# Altium footprint library Texas_Instruments.PcbLib: 113 footprints (part 6 of 8)
Each footprint in its own frame and in the unit in brackets; x right, y up, seen from the top. Pads: shape width x height; smd on the part's side, far side on the other; paste and mask are expansions set on the pad; w line width, h text height; cw(c..) or ccw(c..) is an arc to the next point about the centre after c.
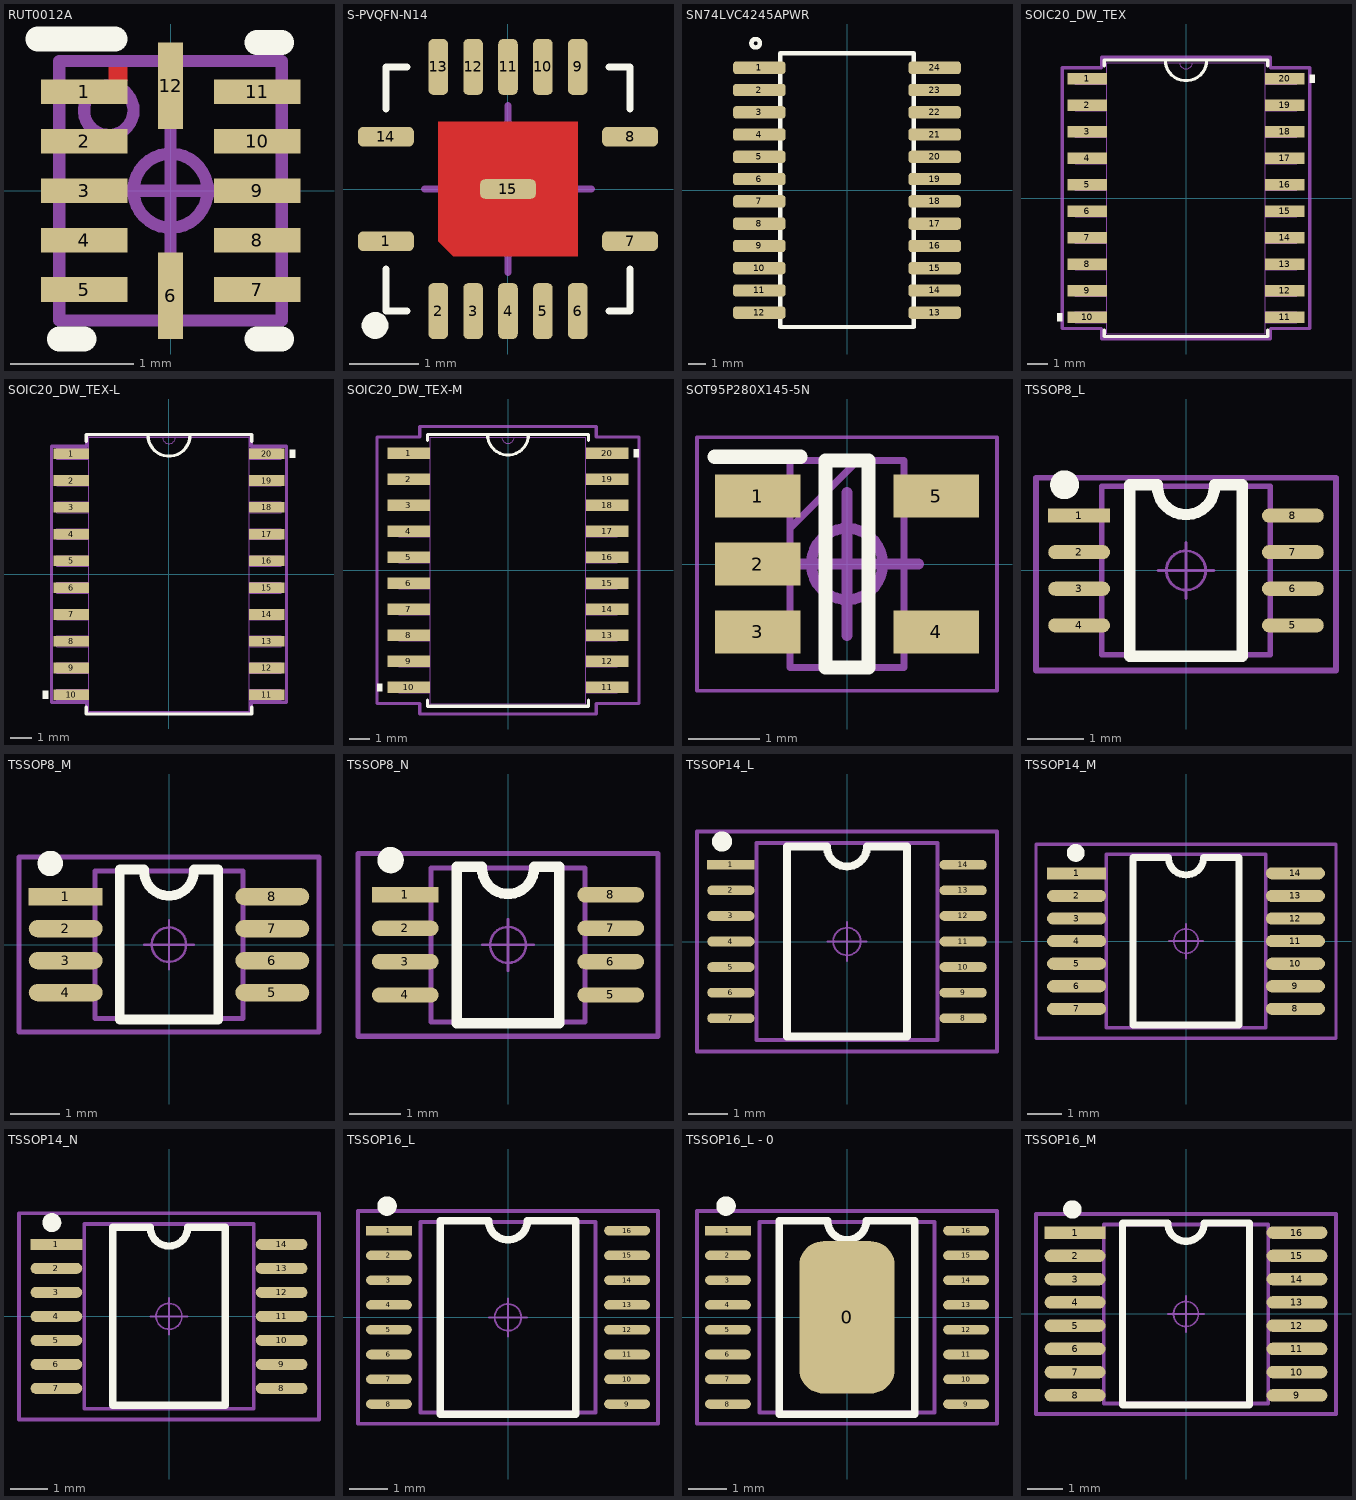
[diagram p5: the footprints below, top view; thin cyan lines are the x and y axes]

## RUT0012A [mm]
pads (12):
  rect 0.7x0.2 smd paste-0.337: 1(-0.7,0.8) 2(-0.7,0.4) 3(-0.7,0) 4(-0.7,-0.4) 5(-0.7,-0.8) 7(0.7,-0.8) 8(0.7,-0.4) 9(0.7,0) 10(0.7,0.4) 11(0.7,0.8)
  rect 0.2x0.7 smd paste-0.337: 6(0,-0.85) 12(0,0.85)
Top Layer:
  region: -0.5,1 -0.5,0.889 -0.35,0.889 -0.35,1
Top Overlay:
  lines w0.2: -1.075,1.228 -0.45,1.228 ; -0.9,-1.2 -0.7,-1.2 ; 0.7,-1.2 0.9,-1.2 ; 0.7,1.2 0.9,1.2
Top Solder:
  region: -0.551,1.051 -0.551,0.849 -0.299,0.849 -0.299,1.051
Mechanical 13:
  circle w0.1: c-0.5,0.65 r0.2
  lines w0.1: -0.9,-1.05 0.9,-1.05 0.9,1.05 -0.9,1.05 -0.9,-1.05
Mechanical 15:
  circle w0.1: c0,0 r0.3
  lines w0.1: -0.6,0 0.6,0 ; 0,-0.6 0,0.6
3D body "RUT0012A.stp": height 0.55, standoff 0, extent -0.85,-1 0.85,1

## S-PVQFN-N14 [mm]
pads (15):
  rrect50% 0.8x0.28 smd: 1(-1.75,-0.75) 7(1.75,-0.75) 8(1.75,0.75) 14(-1.75,0.75) 15(0,0)
  rrect50% 0.28x0.8 smd: 2(-1,-1.75) 3(-0.5,-1.75) 4(0,-1.75) 5(0.5,-1.75) 6(1,-1.75) 9(1,1.75) 10(0.5,1.75) 11(0,1.75) 12(-0.5,1.75) 13(-1,1.75)
Top Layer:
  region: -1,0.965 -1,-0.75 -0.785,-0.965 1,-0.965 1,0.965
Top Overlay:
  circle w0.2: c-1.905,-1.956 r0.092
  lines w0.1: -1.75,-1.15 -1.75,-1.75 -1.45,-1.75 ; -1.75,1.15 -1.75,1.75 -1.45,1.75 ; 1.45,-1.75 1.75,-1.75 1.75,-1.15 ; 1.45,1.75 1.75,1.75 1.75,1.15
Top Solder:
  region: -1,0.965 -1,-0.75 -0.785,-0.965 1,-0.965 1,0.965
Mechanical 15:
  circle w0.1: c0,0 r0.5
  lines w0.1: -1.2,0 0,0 ; 0,-1.2 0,0 ; 0,1.2 0,0 ; 1.2,0 0,0
3D body "RGY0014A.stp": height 0.97, standoff 0, extent -1.75,-1.75 1.75,1.75

## SN74LVC4245APWR [mm]
pads (24):
  rrect50% 3x0.7 smd: 1(-5,6.985) 2(-5,5.715) 3(-5,4.445) 4(-5,3.175) 5(-5,1.905) 6(-5,0.635) 7(-5,-0.635) 8(-5,-1.905) 9(-5,-3.175) 10(-5,-4.445) 11(-5,-5.715) 12(-5,-6.985) 13(5,-6.985) 14(5,-5.715) 15(5,-4.445) 16(5,-3.175) 17(5,-1.905) 18(5,-0.635) 19(5,0.635) 20(5,1.905) 21(5,3.175) 22(5,4.445) 23(5,5.715) 24(5,6.985)
Top Overlay:
  circle w0.254: c-5.207,8.382 r0.243
  lines w0.254: -3.8,-7.8 -3.8,7.8 3.8,7.8 3.8,-7.8 -3.8,-7.8

## SOIC20_DW_TEX [mil]
pads (20):
  rect 74x22 smd paste+0 mask+0: 1(-186.5,225) 2(-186.5,175) 3(-186.5,125) 4(-186.5,75) 5(-186.5,25) 6(-186.5,-25) 7(-186.5,-75) 8(-186.5,-125) 9(-186.5,-175) 10(-186.5,-225) 11(186.5,-225) 12(186.5,-175) 13(186.5,-125) 14(186.5,-75) 15(186.5,-25) 16(186.5,25) 17(186.5,75) 18(186.5,125) 19(186.5,175) 20(186.5,225)
Top Overlay:
  region: 233.5,232.5 243.5,232.5 243.5,217.5 233.5,217.5
  region: -233.5,-217.5 -243.5,-217.5 -243.5,-232.5 -233.5,-232.5
  lines w6: -154.5,-249.1 -154.5,-261 154.5,-261 154.5,-249.1 ; -154.5,249.1 -154.5,261 154.5,261 154.5,249.1 ; -39.37,261 ccw(c0,261) 39.37,261
Mechanical 13:
  lines w0: -12,256 ccw(c0,256) 12,256
  lines w1: -209.5,-235 -149.5,-235 -149.5,-215 -209.5,-215 -209.5,-235 ; -209.5,-185 -149.5,-185 -149.5,-165 -209.5,-165 -209.5,-185 ; -209.5,-135 -149.5,-135 -149.5,-115 -209.5,-115 -209.5,-135 ; -209.5,-85 -149.5,-85 -149.5,-65 -209.5,-65 -209.5,-85 ; -209.5,-35 -149.5,-35 -149.5,-15 -209.5,-15 -209.5,-35 ; -209.5,15 -149.5,15 -149.5,35 -209.5,35 -209.5,15 ; -209.5,65 -149.5,65 -149.5,85 -209.5,85 -209.5,65 ; -209.5,115 -149.5,115 -149.5,135 -209.5,135 -209.5,115 ; -209.5,165 -149.5,165 -149.5,185 -209.5,185 -209.5,165 ; -209.5,215 -149.5,215 -149.5,235 -209.5,235 -209.5,215 ; -149.5,-256 -149.5,256 149.5,256 149.5,-256 -149.5,-256 ; 149.5,-235 209.5,-235 209.5,-215 149.5,-215 149.5,-235 ; 149.5,-185 209.5,-185 209.5,-165 149.5,-165 149.5,-185 ; 149.5,-135 209.5,-135 209.5,-115 149.5,-115 149.5,-135 ; 149.5,-85 209.5,-85 209.5,-65 149.5,-65 149.5,-85 ; 149.5,-35 209.5,-35 209.5,-15 149.5,-15 149.5,-35 ; 149.5,15 209.5,15 209.5,35 149.5,35 149.5,15 ; 149.5,65 209.5,65 209.5,85 149.5,85 149.5,65 ; 149.5,115 209.5,115 209.5,135 149.5,135 149.5,115 ; 149.5,165 209.5,165 209.5,185 149.5,185 149.5,165 ; 149.5,215 209.5,215 209.5,235 149.5,235 149.5,215
Mechanical 15:
  lines w6: -233.5,-246 -159.5,-246 -159.5,-266 159.5,-266 159.5,-246 233.5,-246 233.5,246 159.5,246 159.5,266 -159.5,266 -159.5,246 -233.5,246 -233.5,-246
3D body "SOIC20_DW_TEX.step": height 104.09, standoff 0, extent -209.49,-255.98 209.49,255.98

## SOIC20_DW_TEX-L [mil]
pads (20):
  rect 66x20 smd paste+0 mask+0: 1(-182.5,225) 2(-182.5,175) 3(-182.5,125) 4(-182.5,75) 5(-182.5,25) 6(-182.5,-25) 7(-182.5,-75) 8(-182.5,-125) 9(-182.5,-175) 10(-182.5,-225) 11(182.5,-225) 12(182.5,-175) 13(182.5,-125) 14(182.5,-75) 15(182.5,-25) 16(182.5,25) 17(182.5,75) 18(182.5,125) 19(182.5,175) 20(182.5,225)
Top Overlay:
  region: 225.5,232.5 235.5,232.5 235.5,217.5 225.5,217.5
  region: -225.5,-217.5 -235.5,-217.5 -235.5,-232.5 -225.5,-232.5
  lines w6: -154.5,-248.1 -154.5,-261 154.5,-261 154.5,-248.1 ; -154.5,248.1 -154.5,261 154.5,261 154.5,248.1 ; -39.37,260 ccw(c0,260) 39.37,260
Mechanical 13:
  lines w0: -12,256 ccw(c0,256) 12,256
  lines w1: -209.5,-235 -149.5,-235 -149.5,-215 -209.5,-215 -209.5,-235 ; -209.5,-185 -149.5,-185 -149.5,-165 -209.5,-165 -209.5,-185 ; -209.5,-135 -149.5,-135 -149.5,-115 -209.5,-115 -209.5,-135 ; -209.5,-85 -149.5,-85 -149.5,-65 -209.5,-65 -209.5,-85 ; -209.5,-35 -149.5,-35 -149.5,-15 -209.5,-15 -209.5,-35 ; -209.5,15 -149.5,15 -149.5,35 -209.5,35 -209.5,15 ; -209.5,65 -149.5,65 -149.5,85 -209.5,85 -209.5,65 ; -209.5,115 -149.5,115 -149.5,135 -209.5,135 -209.5,115 ; -209.5,165 -149.5,165 -149.5,185 -209.5,185 -209.5,165 ; -209.5,215 -149.5,215 -149.5,235 -209.5,235 -209.5,215 ; -149.5,-256 -149.5,256 149.5,256 149.5,-256 -149.5,-256 ; 149.5,-235 209.5,-235 209.5,-215 149.5,-215 149.5,-235 ; 149.5,-185 209.5,-185 209.5,-165 149.5,-165 149.5,-185 ; 149.5,-135 209.5,-135 209.5,-115 149.5,-115 149.5,-135 ; 149.5,-85 209.5,-85 209.5,-65 149.5,-65 149.5,-85 ; 149.5,-35 209.5,-35 209.5,-15 149.5,-15 149.5,-35 ; 149.5,15 209.5,15 209.5,35 149.5,35 149.5,15 ; 149.5,65 209.5,65 209.5,85 149.5,85 149.5,65 ; 149.5,115 209.5,115 209.5,135 149.5,135 149.5,115 ; 149.5,165 209.5,165 209.5,185 149.5,185 149.5,165 ; 149.5,215 209.5,215 209.5,235 149.5,235 149.5,215
Mechanical 15:
  lines w6: -219.5,-239 -153.5,-239 -153.5,-260 153.5,-260 153.5,-239 219.5,-239 219.5,239 153.5,239 153.5,260 -153.5,260 -153.5,239 -219.5,239 -219.5,-239
3D body "SOIC20_DW_TEX.step": height 104.09, standoff 0, extent -209.49,-255.98 209.49,255.98

## SOIC20_DW_TEX-M [mil]
pads (20):
  rect 82x22 smd paste+0 mask+0: 1(-190.5,225) 2(-190.5,175) 3(-190.5,125) 4(-190.5,75) 5(-190.5,25) 6(-190.5,-25) 7(-190.5,-75) 8(-190.5,-125) 9(-190.5,-175) 10(-190.5,-225) 11(190.5,-225) 12(190.5,-175) 13(190.5,-125) 14(190.5,-75) 15(190.5,-25) 16(190.5,25) 17(190.5,75) 18(190.5,125) 19(190.5,175) 20(190.5,225)
Top Overlay:
  region: 241.5,232.5 251.5,232.5 251.5,217.5 241.5,217.5
  region: -241.5,-217.5 -251.5,-217.5 -251.5,-232.5 -241.5,-232.5
  lines w6: -154.5,-249.1 -154.5,-261 154.5,-261 154.5,-249.1 ; -154.5,249.1 -154.5,261 154.5,261 154.5,249.1 ; -39.37,261 ccw(c0,261) 39.37,261
Mechanical 13:
  lines w0: -12,256 ccw(c0,256) 12,256
  lines w1: -209.5,-235 -149.5,-235 -149.5,-215 -209.5,-215 -209.5,-235 ; -209.5,-185 -149.5,-185 -149.5,-165 -209.5,-165 -209.5,-185 ; -209.5,-135 -149.5,-135 -149.5,-115 -209.5,-115 -209.5,-135 ; -209.5,-85 -149.5,-85 -149.5,-65 -209.5,-65 -209.5,-85 ; -209.5,-35 -149.5,-35 -149.5,-15 -209.5,-15 -209.5,-35 ; -209.5,15 -149.5,15 -149.5,35 -209.5,35 -209.5,15 ; -209.5,65 -149.5,65 -149.5,85 -209.5,85 -209.5,65 ; -209.5,115 -149.5,115 -149.5,135 -209.5,135 -209.5,115 ; -209.5,165 -149.5,165 -149.5,185 -209.5,185 -209.5,165 ; -209.5,215 -149.5,215 -149.5,235 -209.5,235 -209.5,215 ; -149.5,-256 -149.5,256 149.5,256 149.5,-256 -149.5,-256 ; 149.5,-235 209.5,-235 209.5,-215 149.5,-215 149.5,-235 ; 149.5,-185 209.5,-185 209.5,-165 149.5,-165 149.5,-185 ; 149.5,-135 209.5,-135 209.5,-115 149.5,-115 149.5,-135 ; 149.5,-85 209.5,-85 209.5,-65 149.5,-65 149.5,-85 ; 149.5,-35 209.5,-35 209.5,-15 149.5,-15 149.5,-35 ; 149.5,15 209.5,15 209.5,35 149.5,35 149.5,15 ; 149.5,65 209.5,65 209.5,85 149.5,85 149.5,65 ; 149.5,115 209.5,115 209.5,135 149.5,135 149.5,115 ; 149.5,165 209.5,165 209.5,185 149.5,185 149.5,165 ; 149.5,215 209.5,215 209.5,235 149.5,235 149.5,215
Mechanical 15:
  lines w6: -251.5,-256 -169.5,-256 -169.5,-276 169.5,-276 169.5,-256 251.5,-256 251.5,256 169.5,256 169.5,276 -169.5,276 -169.5,256 -251.5,256 -251.5,-256
3D body "SOIC20_DW_TEX.step": height 104.09, standoff 0, extent -209.49,-255.98 209.49,255.98

## SOT95P280X145-5N [mm]
pads (5):
  rect 1.2x0.6 smd: 1(-1.25,0.95) 2(-1.25,0) 3(-1.25,-0.95) 4(1.25,-0.95) 5(1.25,0.95)
Top Overlay:
  lines w0.2: -1.85,1.5 -0.65,1.5 ; -0.3,-1.45 -0.3,1.45 0.3,1.45 0.3,-1.45 -0.3,-1.45
Mechanical 13:
  lines w0.1: -0.8,0.5 0.15,1.45 ; -0.8,-1.45 -0.8,1.45 0.8,1.45 0.8,-1.45 -0.8,-1.45
Mechanical 15:
  circle w0.152: c0,0 r0.5
  lines w0.05: -2.1,-1.775 -2.1,1.775 2.1,1.775 2.1,-1.775 -2.1,-1.775
  lines w0.152: -1,0 0,0 ; 0,-1 0,0 ; 0,1 0,0 ; 1,0 0,0
3D body "TLV62569DBVR.stp": height 1.2, standoff 0, extent -1.4,-1.45 1.4,1.45

## TSSOP8_L [mm] "3*4.2*1mm（长宽高）"
pads (8):
  rect 1.1x0.25 smd: 1(-1.9,0.975)
  oval 1.1x0.25 smd: 2(-1.9,0.325) 3(-1.9,-0.325) 4(-1.9,-0.975) 5(1.9,-0.975) 6(1.9,-0.325) 7(1.9,0.325) 8(1.9,0.975)
Top Overlay:
  circle w0.254: c-2.159,1.524 r0.13
  lines w0.2: -0.508,1.5 ccw(c0,1.5) 0.508,1.5 ; -0.508,1.524 -1,1.524 -1,-1.524 1,-1.524 1,1.524 0.508,1.524
Mechanical 13:
  lines w0.1: -1.5,-1.5 -1.5,1.5 1.5,1.5 1.5,-1.5 -1.5,-1.5
Mechanical 15:
  circle w0.05: c0,0 r0.35
  lines w0.05: -0.5,0 0.5,0 ; 0,-0.5 0,0.5
  lines w0.1: -2.667,-1.778 2.667,-1.778 2.667,1.651 -2.667,1.651 -2.667,-1.778
3D body "TSSOP8.STEP": height 1.03, standoff -0.02, extent -2.052,-1.5 2.052,1.5

## TSSOP8_M [mm] "3*4.2*1mm（长宽高）"
pads (8):
  rect 1.5x0.35 smd: 1(-2.1,0.975)
  oval 1.5x0.35 smd: 2(-2.1,0.325) 3(-2.1,-0.325) 4(-2.1,-0.975) 5(2.1,-0.975) 6(2.1,-0.325) 7(2.1,0.325) 8(2.1,0.975)
Top Overlay:
  circle w0.254: c-2.413,1.651 r0.13
  lines w0.2: -0.508,1.5 ccw(c0,1.5) 0.508,1.5 ; -0.508,1.524 -1,1.524 -1,-1.524 1,-1.524 1,1.524 0.508,1.524
Mechanical 13:
  lines w0.1: -1.5,-1.5 -1.5,1.5 1.5,1.5 1.5,-1.5 -1.5,-1.5
Mechanical 15:
  circle w0.05: c0,0 r0.35
  lines w0.05: -0.5,0 0.5,0 ; 0,-0.5 0,0.5
  lines w0.1: -3.048,-1.778 3.048,-1.778 3.048,1.778 -3.048,1.778 -3.048,-1.778
3D body "TSSOP8.STEP": height 1.03, standoff -0.02, extent -2.052,-1.5 2.052,1.5

## TSSOP8_N [mm] "规格：3*6.4*1.1mm（长宽高）"
pads (8):
  rect 1.3x0.3 smd: 1(-2,0.975)
  oval 1.3x0.3 smd: 2(-2,0.325) 3(-2,-0.325) 4(-2,-0.975) 5(2,-0.975) 6(2,-0.325) 7(2,0.325) 8(2,0.975)
Top Overlay:
  circle w0.254: c-2.286,1.651 r0.13
  lines w0.2: -0.508,1.5 ccw(c0,1.5) 0.508,1.5 ; -0.508,1.524 -1,1.524 -1,-1.524 1,-1.524 1,1.524 0.508,1.524
Mechanical 13:
  lines w0.1: -1.5,-1.5 -1.5,1.5 1.5,1.5 1.5,-1.5 -1.5,-1.5
Mechanical 15:
  circle w0.05: c0,0 r0.35
  lines w0.05: -0.5,0 0.5,0 ; 0,-0.5 0,0.5
  lines w0.1: -2.921,-1.778 2.921,-1.778 2.921,1.778 -2.921,1.778 -2.921,-1.778
3D body "TSSOP8.STEP": height 1.03, standoff -0.02, extent -2.052,-1.5 2.052,1.5

## TSSOP14_L [mm] "5*6.4*1mm（长宽高）"
pads (14):
  rect 1.2x0.25 smd: 1(-2.95,1.95)
  oval 1.2x0.25 smd: 2(-2.95,1.3) 3(-2.95,0.65) 4(-2.95,0) 5(-2.95,-0.65) 6(-2.95,-1.3) 7(-2.95,-1.95) 8(2.95,-1.95) 9(2.95,-1.3) 10(2.95,-0.65) 11(2.95,0) 12(2.95,0.65) 13(2.95,1.3) 14(2.95,1.95)
Top Overlay:
  circle w0.254: c-3.175,2.54 r0.13
  lines w0.2: -0.508,2.413 -1.524,2.413 -1.524,-2.413 1.524,-2.413 1.524,2.413 0.508,2.413 ; -0.506,2.373 ccw(c0,2.413) 0.506,2.373
Mechanical 13:
  lines w0.1: -2.3,-2.5 2.3,-2.5 2.3,2.5 -2.3,2.5 -2.3,-2.5
Mechanical 15:
  circle w0.05: c0,0 r0.35
  lines w0.05: -0.5,0 0.5,0 ; 0,-0.5 0,0.5
  lines w0.1: -3.81,-2.794 3.81,-2.794 3.81,2.794 -3.81,2.794 -3.81,-2.794
3D body "TSSOP14.STEP": height 1.03, standoff -0.02, extent -3.202,-2.5 3.202,2.5

## TSSOP14_M [mm] "5*6.4*1mm（长宽高）"
pads (14):
  rect 1.7x0.35 smd: 1(-3.15,1.95)
  oval 1.7x0.35 smd: 2(-3.15,1.3) 3(-3.15,0.65) 4(-3.15,0) 5(-3.15,-0.65) 6(-3.15,-1.3) 7(-3.15,-1.95) 8(3.15,-1.95) 9(3.15,-1.3) 10(3.15,-0.65) 11(3.15,0) 12(3.15,0.65) 13(3.15,1.3) 14(3.15,1.95)
Top Overlay:
  circle w0.254: c-3.175,2.54 r0.13
  lines w0.2: -0.508,2.413 -1.524,2.413 -1.524,-2.413 1.524,-2.413 1.524,2.413 0.508,2.413 ; -0.506,2.373 ccw(c0,2.413) 0.506,2.373
Mechanical 13:
  lines w0.1: -2.3,-2.5 -2.3,2.5 2.3,2.5 2.3,-2.5 -2.3,-2.5
Mechanical 15:
  circle w0.05: c0,0 r0.35
  lines w0.05: -0.5,0 0.5,0 ; 0,-0.5 0,0.5
  lines w0.1: -4.318,-2.794 -4.318,2.794 4.318,2.794 4.318,-2.794 -4.318,-2.794
3D body "TSSOP14.STEP": height 1.03, standoff -0.02, extent -3.202,-2.5 3.202,2.5

## TSSOP14_N [mm] "5*6.4*1mm（长宽高）"
pads (14):
  rect 1.4x0.3 smd: 1(-3.05,1.95)
  oval 1.4x0.3 smd: 2(-3.05,1.3) 3(-3.05,0.65) 4(-3.05,0) 5(-3.05,-0.65) 6(-3.05,-1.3) 7(-3.05,-1.95) 8(3.05,-1.95) 9(3.05,-1.3) 10(3.05,-0.65) 11(3.05,0) 12(3.05,0.65) 13(3.05,1.3) 14(3.05,1.95)
Top Overlay:
  circle w0.254: c-3.175,2.54 r0.13
  lines w0.2: -0.508,2.413 -1.524,2.413 -1.524,-2.413 1.524,-2.413 1.524,2.413 0.508,2.413 ; -0.506,2.373 ccw(c0,2.413) 0.506,2.373
Mechanical 13:
  lines w0.1: -2.3,-2.5 -2.3,2.5 2.3,2.5 2.3,-2.5 -2.3,-2.5
Mechanical 15:
  circle w0.05: c0,0 r0.35
  lines w0.05: -0.5,0 0.5,0 ; 0,-0.5 0,0.5
  lines w0.1: -4.064,-2.794 -4.064,2.794 4.064,2.794 4.064,-2.794 -4.064,-2.794
3D body "TSSOP14.STEP": height 1.03, standoff -0.02, extent -3.202,-2.5 3.202,2.5

## TSSOP16_L [mm] "5*6.4*1mm（长宽高）"
pads (16):
  rect 1.2x0.25 smd: 1(-3.125,2.275)
  oval 1.2x0.25 smd: 2(-3.125,1.625) 3(-3.125,0.975) 4(-3.125,0.325) 5(-3.125,-0.325) 6(-3.125,-0.975) 7(-3.125,-1.625) 8(-3.125,-2.275) 9(3.125,-2.275) 10(3.125,-1.625) 11(3.125,-0.975) 12(3.125,-0.325) 13(3.125,0.325) 14(3.125,0.975) 15(3.125,1.625) 16(3.125,2.275)
Top Overlay:
  circle w0.254: c-3.175,2.921 r0.13
  lines w0.2: -1.778,-2.54 1.778,-2.54 1.778,2.54 0.508,2.54 cw(c0,2.54) -0.508,2.54 -1.778,2.54 -1.778,-2.54
Mechanical 13:
  lines w0.1: -2.3,-2.5 -2.3,2.5 2.3,2.5 2.3,-2.5 -2.3,-2.5
Mechanical 15:
  circle w0.05: c0,0 r0.35
  lines w0.05: -0.5,0 0.5,0 ; 0,-0.5 0,0.5
  lines w0.1: -3.937,-2.794 3.937,-2.794 3.937,2.794 -3.937,2.794 -3.937,-2.794
3D body "TSSOP16.STEP": height 1.03, standoff -0.02, extent -3.202,-2.5 3.202,2.5

## TSSOP16_L - 0 [mm] "5*6.4*1mm（长宽高）"
pads (17):
  rrect50% 2.5x4 smd: 0(0,0)
  rect 1.2x0.25 smd: 1(-3.125,2.275)
  oval 1.2x0.25 smd: 2(-3.125,1.625) 3(-3.125,0.975) 4(-3.125,0.325) 5(-3.125,-0.325) 6(-3.125,-0.975) 7(-3.125,-1.625) 8(-3.125,-2.275) 9(3.125,-2.275) 10(3.125,-1.625) 11(3.125,-0.975) 12(3.125,-0.325) 13(3.125,0.325) 14(3.125,0.975) 15(3.125,1.625) 16(3.125,2.275)
Top Overlay:
  circle w0.254: c-3.175,2.921 r0.13
  lines w0.2: -1.778,-2.54 -1.778,2.54 -0.508,2.54 ccw(c0,2.54) 0.508,2.54 1.778,2.54 1.778,-2.54 -1.778,-2.54
Mechanical 13:
  lines w0.1: -2.3,-2.5 2.3,-2.5 2.3,2.5 -2.3,2.5 -2.3,-2.5
Mechanical 15:
  circle w0.05: c0,0 r0.35
  lines w0.05: -0.5,0 0.5,0 ; 0,-0.5 0,0.5
  lines w0.1: -3.937,-2.794 -3.937,2.794 3.937,2.794 3.937,-2.794 -3.937,-2.794
3D body "TSSOP16.STEP": height 1.03, standoff -0.02, extent -3.202,-2.5 3.202,2.5

## TSSOP16_M [mm] "5*6.4*1mm（长宽高）"
pads (16):
  rect 1.7x0.35 smd: 1(-3.1,2.275)
  oval 1.7x0.35 smd: 2(-3.1,1.625) 3(-3.1,0.975) 4(-3.1,0.325) 5(-3.1,-0.325) 6(-3.1,-0.975) 7(-3.1,-1.625) 8(-3.1,-2.275) 9(3.1,-2.275) 10(3.1,-1.625) 11(3.1,-0.975) 12(3.1,-0.325) 13(3.1,0.325) 14(3.1,0.975) 15(3.1,1.625) 16(3.1,2.275)
Top Overlay:
  circle w0.254: c-3.175,2.921 r0.13
  lines w0.2: -1.778,-2.54 1.778,-2.54 1.778,2.54 0.508,2.54 cw(c0,2.54) -0.508,2.54 -1.778,2.54 -1.778,-2.54
Mechanical 13:
  lines w0.1: -2.3,-2.5 -2.3,2.5 2.3,2.5 2.3,-2.5 -2.3,-2.5
Mechanical 15:
  circle w0.05: c0,0 r0.35
  lines w0.05: -0.5,0 0.5,0 ; 0,-0.5 0,0.5
  lines w0.1: -4.191,-2.794 -4.191,2.794 4.191,2.794 4.191,-2.794 -4.191,-2.794
3D body "TSSOP16.STEP": height 1.03, standoff -0.02, extent -3.202,-2.5 3.202,2.5